# Altium integrated library micro-cyrod.IntLib: 4 symbols
Pins are listed as number, name and electrical type; pins without a type are passive.

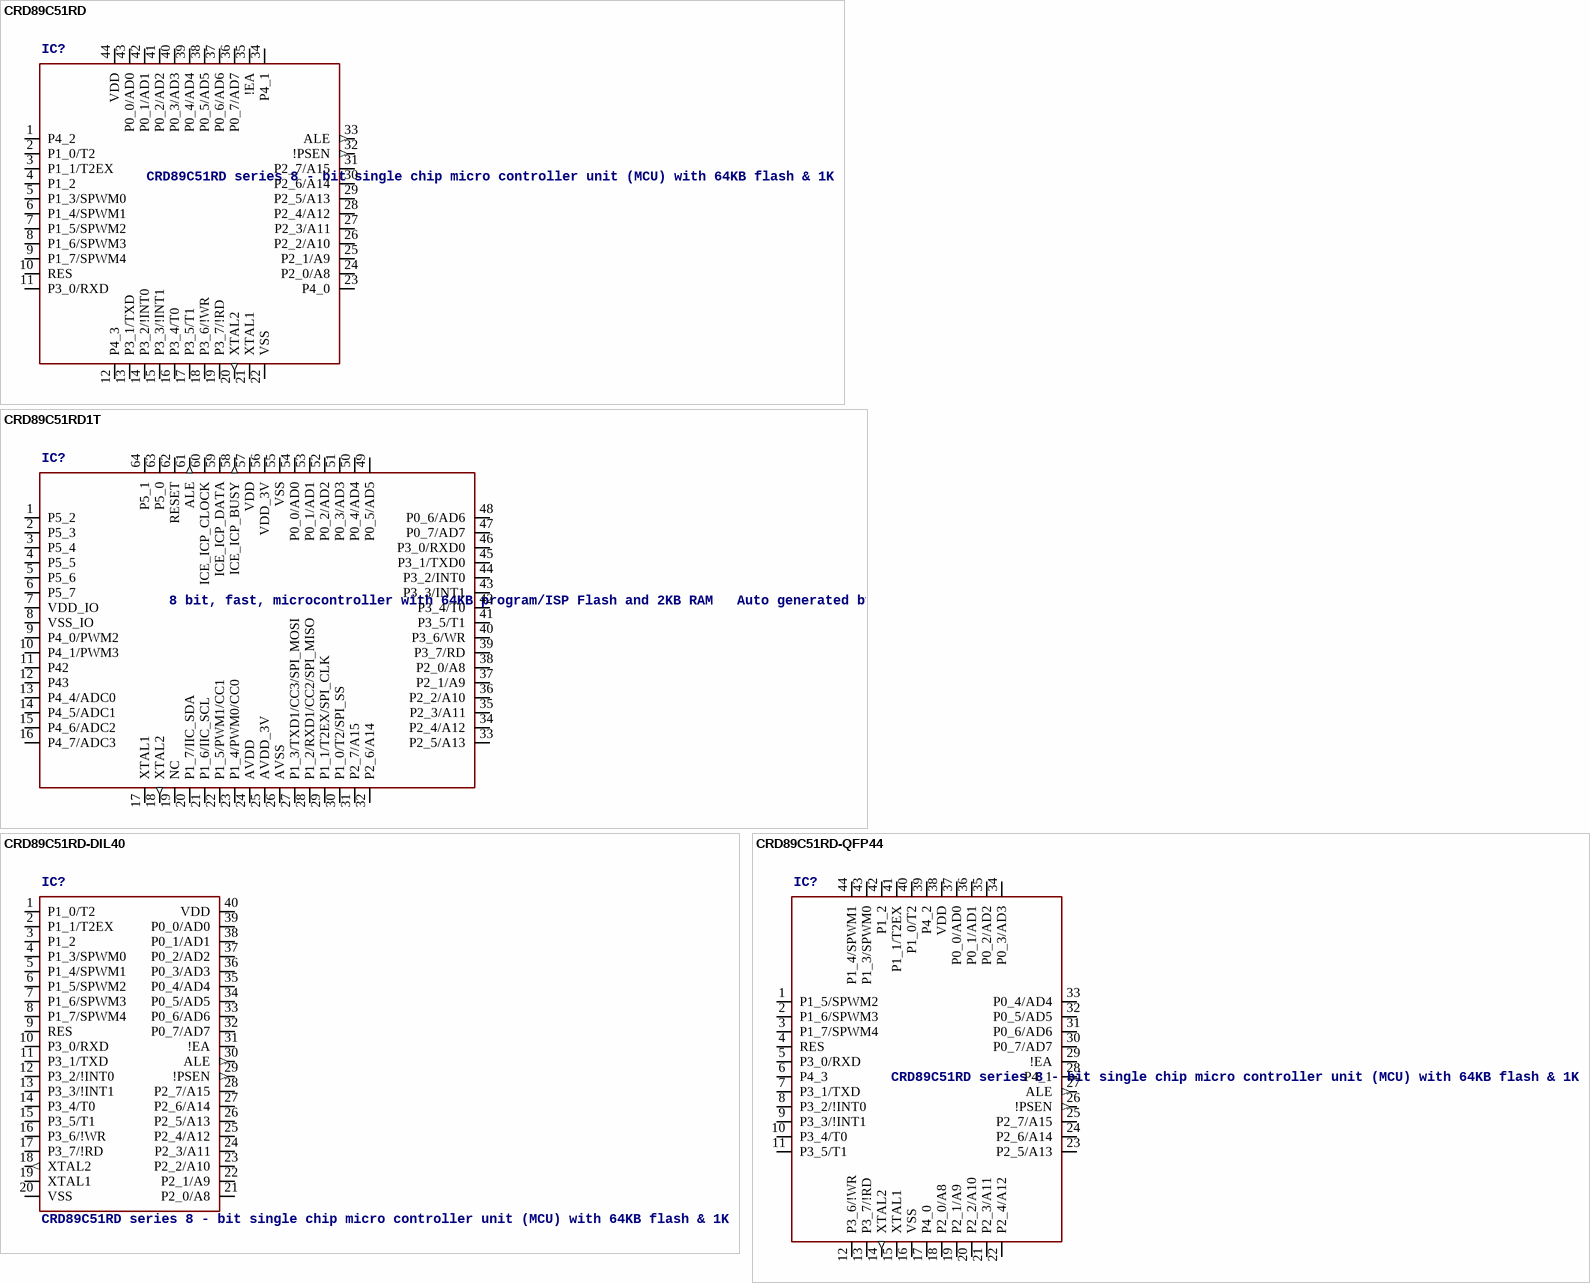
[diagram p0: symbols CRD89C51RD to CRD89C51RD-QFP44]

## CRD89C51RD
designator IC?, comment CRD89C51RD series 8 - bit single chip micro controller unit (MCU) with 64KB flash & 1K byte RAM embedded.   Auto generated by make-symbol-device-package-bsdl.ulp Rev. 35 Source: CRD89C51RD_v001.pdf
OC_FARNELL: unknown; OC_NEWARK: unknown
footprint PLCC44
pins: 1 P4_2, 2 P1_0/T2, 3 P1_1/T2EX, 4 P1_2, 5 P1_3/SPWM0, 6 P1_4/SPWM1, 7 P1_5/SPWM2, 8 P1_6/SPWM3, 9 P1_7/SPWM4, 10 RES, 11 P3_0/RXD, 12 P4_3, 13 P3_1/TXD, 14 P3_2/!INT0, 15 P3_3/!INT1, 16 P3_4/T0, 17 P3_5/T1, 18 P3_6/!WR, 19 P3_7/!RD, 20 XTAL2 (out), 21 XTAL1, 22 VSS (power), 23 P4_0, 24 P2_0/A8, 25 P2_1/A9, 26 P2_2/A10, 27 P2_3/A11, 28 P2_4/A12, 29 P2_5/A13, 30 P2_6/A14, 31 P2_7/A15, 32 !PSEN (out), 33 ALE (out), 34 P4_1, 35 !EA, 36 P0_7/AD7, 37 P0_6/AD6, 38 P0_5/AD5, 39 P0_4/AD4, 40 P0_3/AD3, 41 P0_2/AD2, 42 P0_1/AD1, 43 P0_0/AD0, 44 VDD (power)

## CRD89C51RD1T
designator IC?, comment 8 bit, fast, microcontroller with 64KB program/ISP Flash and 2KB RAM   Auto generated by make-symbol-device-package-bsdl.ulp Rev. 34 Source: www.cyrod.com .. CRD89C51RD1T-V10.pdf
OC_FARNELL: unknown; OC_NEWARK: unknown
footprint TQFP64L-10X10X2.0MM
pins: 1 P5_2, 2 P5_3, 3 P5_4, 4 P5_5, 5 P5_6, 6 P5_7, 7 VDD_IO (power), 8 VSS_IO (power), 9 P4_0/PWM2, 10 P4_1/PWM3, 11 P42, 12 P43, 13 P4_4/ADC0, 14 P4_5/ADC1, 15 P4_6/ADC2, 16 P4_7/ADC3, 17 XTAL1, 18 XTAL2 (out), 19 NC, 20 P1_7/IIC_SDA, 21 P1_6/IIC_SCL, 22 P1_5/PWM1/CC1, 23 P1_4/PWM0/CC0, 24 AVDD (power), 25 AVDD_3V (power), 26 AVSS (power), 27 P1_3/TXD1/CC3/SPI_MOSI, 28 P1_2/RXD1/CC2/SPI_MISO, 29 P1_1/T2EX/SPI_CLK, 30 P1_0/T2/SPI_SS, 31 P2_7/A15, 32 P2_6/A14, 33 P2_5/A13, 34 P2_4/A12, 35 P2_3/A11, 36 P2_2/A10, 37 P2_1/A9, 38 P2_0/A8, 39 P3_7/RD, 40 P3_6/WR, 41 P3_5/T1, 42 P3_4/T0, 43 P3_3/INT1, 44 P3_2/INT0, 45 P3_1/TXD0, 46 P3_0/RXD0, 47 P0_7/AD7, 48 P0_6/AD6, 49 P0_5/AD5, 50 P0_4/AD4, 51 P0_3/AD3, 52 P0_2/AD2, 53 P0_1/AD1, 54 P0_0/AD0, 55 VSS (power), 56 VDD_3V (power), 57 VDD (power), 58 ICE_ICP_BUSY (out), 59 ICE_ICP_DATA, 60 ICE_ICP_CLOCK, 61 ALE (out), 62 RESET, 63 P5_0, 64 P5_1

## CRD89C51RD-DIL40
designator IC?, comment CRD89C51RD series 8 - bit single chip micro controller unit (MCU) with 64KB flash & 1K byte RAM embedded.   Auto generated by make-symbol-device-package-bsdl.ulp Rev. 35 Source: CRD89C51RD_v001.pdf
OC_FARNELL: unknown; OC_NEWARK: unknown
footprint DIL40
pins: 1 P1_0/T2, 2 P1_1/T2EX, 3 P1_2, 4 P1_3/SPWM0, 5 P1_4/SPWM1, 6 P1_5/SPWM2, 7 P1_6/SPWM3, 8 P1_7/SPWM4, 9 RES, 10 P3_0/RXD, 11 P3_1/TXD, 12 P3_2/!INT0, 13 P3_3/!INT1, 14 P3_4/T0, 15 P3_5/T1, 16 P3_6/!WR, 17 P3_7/!RD, 18 XTAL2 (out), 19 XTAL1, 20 VSS (power), 21 P2_0/A8, 22 P2_1/A9, 23 P2_2/A10, 24 P2_3/A11, 25 P2_4/A12, 26 P2_5/A13, 27 P2_6/A14, 28 P2_7/A15, 29 !PSEN (out), 30 ALE (out), 31 !EA, 32 P0_7/AD7, 33 P0_6/AD6, 34 P0_5/AD5, 35 P0_4/AD4, 36 P0_3/AD3, 37 P0_2/AD2, 38 P0_1/AD1, 39 P0_0/AD0, 40 VDD (power)

## CRD89C51RD-QFP44
designator IC?, comment CRD89C51RD series 8 - bit single chip micro controller unit (MCU) with 64KB flash & 1K byte RAM embedded.   Auto generated by make-symbol-device-package-bsdl.ulp Rev. 35 Source: CRD89C51RD_v001.pdf
OC_FARNELL: unknown; OC_NEWARK: unknown
footprint SQFP-S-10X10-44
pins: 1 P1_5/SPWM2, 2 P1_6/SPWM3, 3 P1_7/SPWM4, 4 RES, 5 P3_0/RXD, 6 P4_3, 7 P3_1/TXD, 8 P3_2/!INT0, 9 P3_3/!INT1, 10 P3_4/T0, 11 P3_5/T1, 12 P3_6/!WR, 13 P3_7/!RD, 14 XTAL2 (out), 15 XTAL1, 16 VSS (power), 17 P4_0, 18 P2_0/A8, 19 P2_1/A9, 20 P2_2/A10, 21 P2_3/A11, 22 P2_4/A12, 23 P2_5/A13, 24 P2_6/A14, 25 P2_7/A15, 26 !PSEN (out), 27 ALE (out), 28 P4_1, 29 !EA, 30 P0_7/AD7, 31 P0_6/AD6, 32 P0_5/AD5, 33 P0_4/AD4, 34 P0_3/AD3, 35 P0_2/AD2, 36 P0_1/AD1, 37 P0_0/AD0, 38 VDD (power), 39 P4_2, 40 P1_0/T2, 41 P1_1/T2EX, 42 P1_2, 43 P1_3/SPWM0, 44 P1_4/SPWM1